# EAGLE library part 28F640J5 (library micro-intel)
MICROCOMPUTER/PERIPHERAL DEVICE
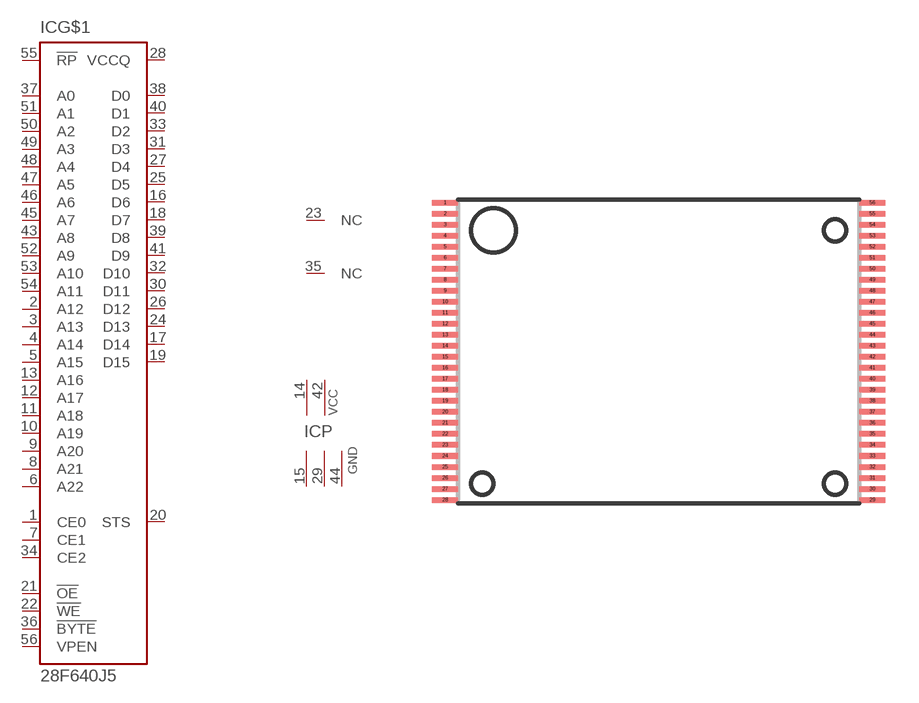
[diagram p72: symbol with the pads of TSOP56; footprint TSOP56]

Designator prefix IC; gates G$1=28F640J5 NC1=NC NC2=NC P=2VCC3GND

## 28F640J5  [TSOP56]
1  G$1:CE0  in
2  G$1:A12  in
3  G$1:A13  in
4  G$1:A14  in
5  G$1:A15  in
6  G$1:A22  in
7  G$1:CE1  in
8  G$1:A21  in
9  G$1:A20  in
10  G$1:A19  in
11  G$1:A18  in
12  G$1:A17  in
13  G$1:A16  in
14  P:VCC  pwr
15  P:GND  pwr
16  G$1:D6  hiz
17  G$1:D14  hiz
18  G$1:D7  hiz
19  G$1:D15  hiz
20  G$1:STS  out
21  G$1:!OE  in
22  G$1:!WE  in
23  NC1:NC  nc
24  G$1:D13  hiz
25  G$1:D5  hiz
26  G$1:D12  hiz
27  G$1:D4  hiz
28  G$1:VCCQ  pwr
29  P:GND  pwr
30  G$1:D11  hiz
31  G$1:D3  hiz
32  G$1:D10  hiz
33  G$1:D2  hiz
34  G$1:CE2  in
35  NC2:NC  nc
36  G$1:!BYTE  out
37  G$1:A0  in
38  G$1:D0  hiz
39  G$1:D8  hiz
40  G$1:D1  hiz
41  G$1:D9  hiz
42  P:VCC  pwr
43  G$1:A8  in
44  P:GND  pwr
45  G$1:A7  in
46  G$1:A6  in
47  G$1:A5  in
48  G$1:A4  in
49  G$1:A3  in
50  G$1:A2  in
51  G$1:A1  in
52  G$1:A9  in
53  G$1:A10  in
54  G$1:A11  in
55  G$1:!RP  in
56  G$1:VPEN  out

## Footprint TSOP56 (pad centres in mm)
Thin Small Outline Package
smd 1.2 x 0.25: 1 -9.7,6.75; 2 -9.7,6.25; 3 -9.7,5.75; 4 -9.7,5.25; 5 -9.7,4.75; 6 -9.7,4.25; 7 -9.7,3.75; 8 -9.7,3.25; 9 -9.7,2.75; 10 -9.7,2.25; 11 -9.7,1.75; 12 -9.7,1.25; 13 -9.7,0.75; 14 -9.7,0.25; 15 -9.7,-0.25; 16 -9.7,-0.75; 17 -9.7,-1.25; 18 -9.7,-1.75; 19 -9.7,-2.25; 20 -9.7,-2.75; 21 -9.7,-3.25; 22 -9.7,-3.75; 23 -9.7,-4.25; 24 -9.7,-4.75; 25 -9.7,-5.25; 26 -9.7,-5.75; 27 -9.7,-6.25; 28 -9.7,-6.75; 29 9.7,-6.75; 30 9.7,-6.25; 31 9.7,-5.75; 32 9.7,-5.25; 33 9.7,-4.75; 34 9.7,-4.25; 35 9.7,-3.75; 36 9.7,-3.25; 37 9.7,-2.75; 38 9.7,-2.25; 39 9.7,-1.75; 40 9.7,-1.25; 41 9.7,-0.75; 42 9.7,-0.25; 43 9.7,0.25; 44 9.7,0.75; 45 9.7,1.25; 46 9.7,1.75; 47 9.7,2.25; 48 9.7,2.75; 49 9.7,3.25; 50 9.7,3.75; 51 9.7,4.25; 52 9.7,4.75; 53 9.7,5.25; 54 9.7,5.75; 55 9.7,6.25; 56 9.7,6.75